# EAGLE library part M2 (library apro)
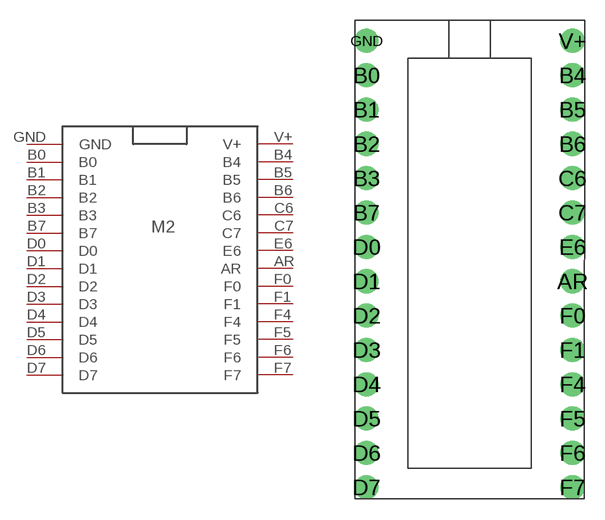
[diagram p0: symbol with the pads of M2; footprint M2]

Designator prefix -

## M2  [M2]
AR  AR
B0  B0
B1  B1
B2  B2
B3  B3
B4  B4
B5  B5
B6  B6
B7  B7
C6  C6
C7  C7
D0  D0
D1  D1
D2  D2
D3  D3
D4  D4
D5  D5
D6  D6
D7  D7
E6  E6
F0  F0
F1  F1
F4  F4
F5  F5
F6  F6
F7  F7
GND  GND
V+  V+

## Footprint M2 (pad centres in mm)
drill 1 pad 1.778: AR 7.62,-2.54; B0 -7.62,12.7; B1 -7.62,10.16; B2 -7.62,7.62; B3 -7.62,5.08; B4 7.62,12.7; B5 7.62,10.16; B6 7.62,7.62; B7 -7.62,2.54; C6 7.62,5.08; C7 7.62,2.54; D0 -7.62,0; D1 -7.62,-2.54; D2 -7.62,-5.08; D3 -7.62,-7.62; D4 -7.62,-10.16; D5 -7.62,-12.7; D6 -7.62,-15.24; D7 -7.62,-17.78; E6 7.62,0; F0 7.62,-5.08; F1 7.62,-7.62; F4 7.62,-10.16; F5 7.62,-12.7; F6 7.62,-15.24; F7 7.62,-17.78; GND -7.62,15.24; V+ 7.62,15.24